# Altium footprint library CDRH8D43 inductor.PcbLib: 1 footprints
Each footprint in its own frame and in the unit in brackets; x right, y up, seen from the top. Pads: shape width x height; smd on the part's side, far side on the other; paste and mask are expansions set on the pad; w line width, h text height; cw(c..) or ccw(c..) is an arc to the next point about the centre after c.
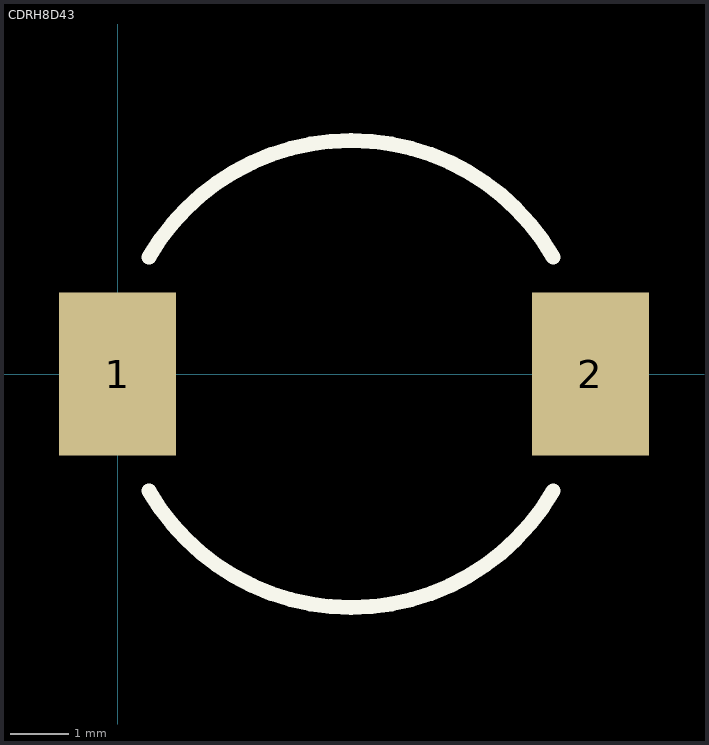
[diagram p0: the footprint, top view; thin cyan lines are the x and y axes]

## CDRH8D43 [mm]
height 4.5
pads (2):
  rect 2x2.8 smd: 1(0,0) 2(8.1,0)
Top Overlay:
  lines w0.254: 0.536,-2 ccw(c4,0) 7.464,-2 ; 0.536,2 cw(c4,0) 7.464,2
3D body: height 6.87, standoff -0.03, extent -1.15,-4.8 9.15,5.2